# EAGLE library part ERF8-010-XX-X-D-RA (library con-samtec-er8)
ERF8 Series - Female Right Angle Edge Mount
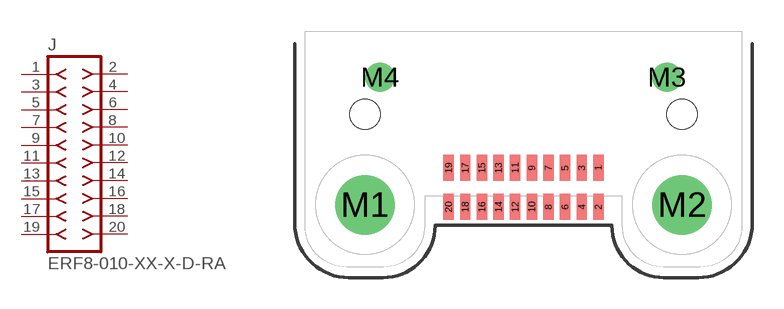
[diagram p31: symbol with the pads of ERF8-010-XX-X-D-RA; footprint ERF8-010-XX-X-D-RA]

Designator prefix J

## ERF8-010-XX-X-D-RA  [ERF8-010-XX-X-D-RA]
1  1  pas
2  2  pas
3  3  pas
4  4  pas
5  5  pas
6  6  pas
7  7  pas
8  8  pas
9  9  pas
10  10  pas
11  11  pas
12  12  pas
13  13  pas
14  14  pas
15  15  pas
16  16  pas
17  17  pas
18  18  pas
19  19  pas
20  20  pas

## Footprint ERF8-010-XX-X-D-RA (pad centres in mm)
0.8mm Edge Rate Terminal Assembly FEMALE, Double Row Right Angle, 10 Position
smd 0.5 x 1.25: 1 3.6,0.94; 2 3.6,-0.94; 3 2.8,0.94; 4 2.8,-0.94; 5 2,0.94; 6 2,-0.94; 7 1.2,0.94; 8 1.2,-0.94; 9 0.4,0.94; 10 0.4,-0.94; 11 -0.4,0.94; 12 -0.4,-0.94; 13 -1.2,0.94; 14 -1.2,-0.94; 15 -2,0.94; 16 -2,-0.94; 17 -2.8,0.94; 18 -2.8,-0.94; 19 -3.6,0.94; 20 -3.6,-0.94
drill 1.905 pad 2.41 round: M1 -7.625,-0.835; M2 7.625,-0.835
drill 0.63 pad 1.4 round: M3 6.9,5.295; M4 -6.9,5.295
hole 1.45 at -7.625,3.515
hole 1.45 at 7.625,3.515